# Altium schematic symbol library Micron Memory DDR2 SDRAM.SchLib: 62 symbols (part 4 of 16)
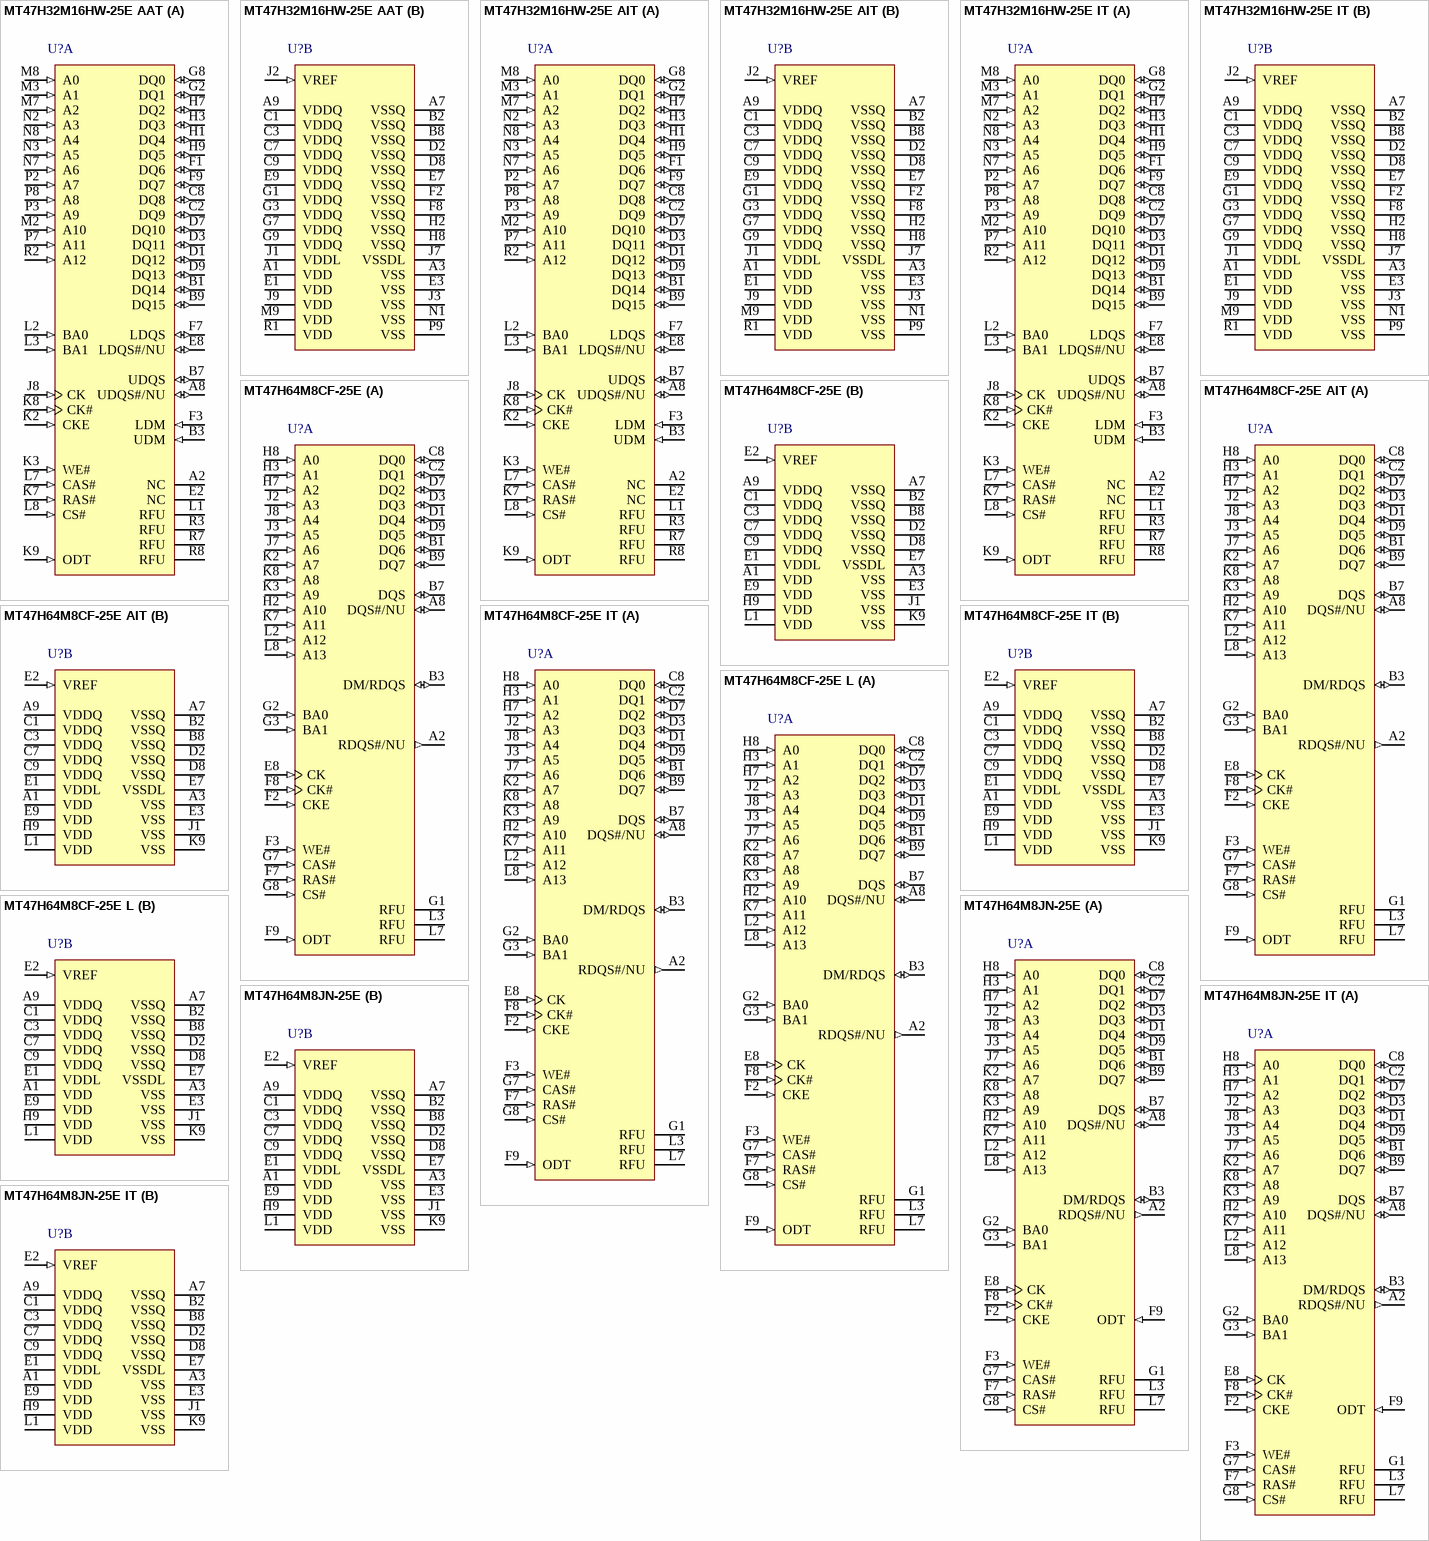
[diagram p10: symbols MT47H32M16HW-25E AAT to MT47H64M8JN-25E IT]

## MT47H64M8CF-25E AIT
designator U?
512Mb DDR2-800 SDRAM, 64Mb x 8, 2.5ns, 1.8V, -40 to 105 degC, 60-Ball FBGA, Pb-Free; Manufacturer: Micron; PartNumber: MT47H64M8CF-25E AIT; CL: CL = 5; Clock Rate: 400 MHz; Op. Temp.: -40C to +105C; DatasheetVersion: Rev.T; PackageVersion: Rev.D; PackageReference: MICT-CF-60; PackageDescription: 60-Ball Fine-Pitch Ball Grid Array, 10 x 8 mm, Pitch 0.8 mm; Cycle Time: 2.5ns; Data Rate: DDR2-800; Density: 512Mb; Depth: 64Mb; Package: FBGA; Pin Count: 60-ball; RoHS: Yes; Voltage: 1.8V; Width: x8; Mounting Technology: Surface Mount; ComponentLink1Description: Manufacturer URL; ComponentLink1URL: http://www.micron.com/; ComponentLink2Description: Datasheet; ComponentLink2URL: http://www.micron.com/~/media/Documents/Products/Data%20Sheet/DRAM/512MbDDR2.pdf; ComponentLink3Description: Package Specification; ComponentLink3URL: http://www.micron.com/~/media/Documents/Products/Data%20Sheet/DRAM/1Gb_1_55V_DDR2.pdf
footprint MICT-CF-60 (BGA, 60-Balls, Body 10x8mm, Pitch 0.8mm)
part A pins: A2 RDQS#/NU (out) "Redundant data strobe: For 64 Meg x 8 only. RDQS is enabled/disabled via the load mode command to the extended mode register (EMR). When RDQS is enabled, RDQS is output with read data only and is ignored during write data. (See Datasheet)", A8 DQS#/NU (io) "Data strobe: Output with read data, input with write data for source synchronous operation. Edge-aligned with read data, center-aligned with write data. DQS# is only used when differential data strobe mode is enabled via the (See Datasheet)", B1 DQ6 (io) "Data input/output:Bidirectional data bus for 64 Meg x 8.", B3 DM/RDQS (io) "Redundant data strobe: For 64 Meg x 8 only. RDQS is enabled/disabled via the load mode command to the extended mode register (EMR). When RDQS is enabled, RDQS is output with read data only and is ignored during write data. (See Datasheet)", B7 DQS (io) "Data strobe: Output with read data, input with write data for source synchronous operation. Edge-aligned with read data, center-aligned with write data. DQS# is only used when differential data strobe mode is enabled via the (See Datasheet)", B9 DQ7 (io) "Data input/output:Bidirectional data bus for 64 Meg x 8.", C2 DQ1 (io) "Data input/output:Bidirectional data bus for 64 Meg x 8.", C8 DQ0 (io) "Data input/output:Bidirectional data bus for 64 Meg x 8.", D1 DQ4 (io) "Data input/output:Bidirectional data bus for 64 Meg x 8.", D3 DQ3 (io) "Data input/output:Bidirectional data bus for 64 Meg x 8.", D7 DQ2 (io) "Data input/output:Bidirectional data bus for 64 Meg x 8.", D9 DQ5 (io) "Data input/output:Bidirectional data bus for 64 Meg x 8.", E8 CK (in) "Clock: CK and CK# are differential clock inputs. All address and control input signals are sampled on the crossing of the positive edge of CK and negative edge of CK#. Output data (DQ and DQS/DQS#) is referenced to the (See Datasheet)", F2 CKE (in) "Clock enable: CKE (registered HIGH) activates and CKE (registered LOW) deactivates clocking circuitry on the DDR2 SDRAM. The specific circuitry that is enabled/disabled is dependent on the DDR2 SDRAM configuration and (See Datasheet)", F3 WE# (in) "Command input: RAS#, CAS#, and WE# (along with CS#) define the command being entered.", F7 RAS# (in) "Command input: RAS#, CAS#, and WE# (along with CS#) define the command being entered.", F8 CK# (in) "Clock: CK and CK# are differential clock inputs. All address and control input signals are sampled on the crossing of the positive edge of CK and negative edge of CK#. Output data (DQ and DQS/DQS#) is referenced to the (See Datasheet)", F9 ODT (in) "On-die termination: ODT (registered HIGH) enables termination resistance internal to the DDR2 SDRAM. When enabled, ODT is only applied to each of the following balls: DQ[7:]DQS, DQS#, RDQS, RDQS#, and DM for the x8; DQ[3:0]. (See Datasheet)", G1 RFU "Reserved for future use", G2 BA0 (in) "Bank address input: BA[1:0] define to which bank an ACTIVATE, READ, WRITE, or PRECHARGE command is being applied. BA[1:0] define which mode register including MR, EMR, EMR(2), and EMR(3) is loaded during the LOAD MODE (See Datasheet)", G3 BA1 (in) "Bank address input: BA[1:0] define to which bank an ACTIVATE, READ, WRITE, or PRECHARGE command is being applied. BA[1:0] define which mode register including MR, EMR, EMR(2), and EMR(3) is loaded during the LOAD MODE (See Datasheet)", G7 CAS# (in) "Command input: RAS#, CAS#, and WE# (along with CS#) define the command being entered.", G8 CS# (in) "Chip select: CS# enables (registered LOW) and disables (registered HIGH) the command decoder. All commands are masked when CS# is registered high. CS# provides for external bank selection on systems with multiple ranks. CS# (See Datasheet)", H2 A10 (in) "Address input: Provide the row address for ACTIVATE commands, and the column address and auto precharge bit (A10) for READ/WRITE commands, to select one location out of the memory array in the respective bank. A10 sampled (See Datasheet)", H3 A1 (in) "Address input: Provide the row address for ACTIVATE commands, and the column address and auto precharge bit (A10) for READ/WRITE commands, to select one location out of the memory array in the respective bank. A10 sampled (See Datasheet)", H7 A2 (in) "Address input: Provide the row address for ACTIVATE commands, and the column address and auto precharge bit (A10) for READ/WRITE commands, to select one location out of the memory array in the respective bank. A10 sampled (See Datasheet)", H8 A0 (in) "Address input: Provide the row address for ACTIVATE commands, and the column address and auto precharge bit (A10) for READ/WRITE commands, to select one location out of the memory array in the respective bank. A10 sampled (See Datasheet)", J2 A3 (in) "Address input: Provide the row address for ACTIVATE commands, and the column address and auto precharge bit (A10) for READ/WRITE commands, to select one location out of the memory array in the respective bank. A10 sampled (See Datasheet)", J3 A5 (in) "Address input: Provide the row address for ACTIVATE commands, and the column address and auto precharge bit (A10) for READ/WRITE commands, to select one location out of the memory array in the respective bank. A10 sampled (See Datasheet)", J7 A6 (in) "Address input: Provide the row address for ACTIVATE commands, and the column address and auto precharge bit (A10) for READ/WRITE commands, to select one location out of the memory array in the respective bank. A10 sampled (See Datasheet)", J8 A4 (in) "Address input: Provide the row address for ACTIVATE commands, and the column address and auto precharge bit (A10) for READ/WRITE commands, to select one location out of the memory array in the respective bank. A10 sampled (See Datasheet)", K2 A7 (in) "Address input: Provide the row address for ACTIVATE commands, and the column address and auto precharge bit (A10) for READ/WRITE commands, to select one location out of the memory array in the respective bank. A10 sampled (See Datasheet)", K3 A9 (in) "Address input: Provide the row address for ACTIVATE commands, and the column address and auto precharge bit (A10) for READ/WRITE commands, to select one location out of the memory array in the respective bank. A10 sampled (See Datasheet)", K7 A11 (in) "Address input: Provide the row address for ACTIVATE commands, and the column address and auto precharge bit (A10) for READ/WRITE commands, to select one location out of the memory array in the respective bank. A10 sampled (See Datasheet)", K8 A8 (in) "Address input: Provide the row address for ACTIVATE commands, and the column address and auto precharge bit (A10) for READ/WRITE commands, to select one location out of the memory array in the respective bank. A10 sampled (See Datasheet)", L2 A12 (in) "Address input: Provide the row address for ACTIVATE commands, and the column address and auto precharge bit (A10) for READ/WRITE commands, to select one location out of the memory array in the respective bank. A10 sampled (See Datasheet)", L3 RFU "Reserved for future use", L7 RFU "Reserved for future use", L8 A13 (in) "Address input: Provide the row address for ACTIVATE commands, and the column address and auto precharge bit (A10) for READ/WRITE commands, to select one location out of the memory array in the respective bank. A10 sampled (See Datasheet)"
part B pins: A1 VDD (power) "Power supply: 1.8V +/-0.1V.", A3 VSS (power) "Ground.", A7 VSSQ (power) "DQ ground: Isolated on the device for improved noise immunity.", A9 VDDQ (power) "DQ power supply: 1.8V +/-0.1V. Isolated on the device for improved noise immunity.", B2 VSSQ (power) "DQ ground: Isolated on the device for improved noise immunity.", B8 VSSQ (power) "DQ ground: Isolated on the device for improved noise immunity.", C1 VDDQ (power) "DQ power supply: 1.8V +/-0.1V. Isolated on the device for improved noise immunity.", C3 VDDQ (power) "DQ power supply: 1.8V +/-0.1V. Isolated on the device for improved noise immunity.", C7 VDDQ (power) "DQ power supply: 1.8V +/-0.1V. Isolated on the device for improved noise immunity.", C9 VDDQ (power) "DQ power supply: 1.8V +/-0.1V. Isolated on the device for improved noise immunity.", D2 VSSQ (power) "DQ ground: Isolated on the device for improved noise immunity.", D8 VSSQ (power) "DQ ground: Isolated on the device for improved noise immunity.", E1 VDDL (power) "DLL power supply: 1.8V +/-0.1V.", E2 VREF (in) "SSTL_18 reference voltage (VDDQ/2).", E3 VSS (power) "Ground.", E7 VSSDL (power) "DLL ground: Isolated on the device from VSS and VSSQ.", E9 VDD (power) "Power supply: 1.8V +/-0.1V.", H9 VDD (power) "Power supply: 1.8V +/-0.1V.", J1 VSS (power) "Ground.", K9 VSS (power) "Ground.", L1 VDD (power) "Power supply: 1.8V +/-0.1V."

## MT47H64M8CF-25E IT
designator U?
512Mb DDR2-800 SDRAM, 64Mb x 8, 2.5ns, 1.8V, -40 to 95 degC, 60-Ball FBGA, Pb-Free; Manufacturer: Micron; PartNumber: MT47H64M8CF-25E IT; CL: CL = 5; Clock Rate: 400 MHz; Op. Temp.: -40C to +95C; DatasheetVersion: Rev.T; PackageVersion: Rev.D; PackageReference: MICT-CF-60; PackageDescription: 60-Ball Fine-Pitch Ball Grid Array, 10 x 8 mm, Pitch 0.8 mm; Cycle Time: 2.5ns; Data Rate: DDR2-800; Density: 512Mb; Depth: 64Mb; Package: FBGA; Pin Count: 60-ball; RoHS: Yes; Voltage: 1.8V; Width: x8; Mounting Technology: Surface Mount; ComponentLink1Description: Manufacturer URL; ComponentLink1URL: http://www.micron.com/; ComponentLink2Description: Datasheet; ComponentLink2URL: http://www.micron.com/~/media/Documents/Products/Data%20Sheet/DRAM/512MbDDR2.pdf; ComponentLink3Description: Package Specification; ComponentLink3URL: http://www.micron.com/~/media/Documents/Products/Data%20Sheet/DRAM/1Gb_1_55V_DDR2.pdf
footprint MICT-CF-60 (BGA, 60-Balls, Body 10x8mm, Pitch 0.8mm)
part A pins: A2 RDQS#/NU (out) "Redundant data strobe: For 64 Meg x 8 only. RDQS is enabled/disabled via the load mode command to the extended mode register (EMR). When RDQS is enabled, RDQS is output with read data only and is ignored during write data. (See Datasheet)", A8 DQS#/NU (io) "Data strobe: Output with read data, input with write data for source synchronous operation. Edge-aligned with read data, center-aligned with write data. DQS# is only used when differential data strobe mode is enabled via the (See Datasheet)", B1 DQ6 (io) "Data input/output:Bidirectional data bus for 64 Meg x 8.", B3 DM/RDQS (io) "Redundant data strobe: For 64 Meg x 8 only. RDQS is enabled/disabled via the load mode command to the extended mode register (EMR). When RDQS is enabled, RDQS is output with read data only and is ignored during write data. (See Datasheet)", B7 DQS (io) "Data strobe: Output with read data, input with write data for source synchronous operation. Edge-aligned with read data, center-aligned with write data. DQS# is only used when differential data strobe mode is enabled via the (See Datasheet)", B9 DQ7 (io) "Data input/output:Bidirectional data bus for 64 Meg x 8.", C2 DQ1 (io) "Data input/output:Bidirectional data bus for 64 Meg x 8.", C8 DQ0 (io) "Data input/output:Bidirectional data bus for 64 Meg x 8.", D1 DQ4 (io) "Data input/output:Bidirectional data bus for 64 Meg x 8.", D3 DQ3 (io) "Data input/output:Bidirectional data bus for 64 Meg x 8.", D7 DQ2 (io) "Data input/output:Bidirectional data bus for 64 Meg x 8.", D9 DQ5 (io) "Data input/output:Bidirectional data bus for 64 Meg x 8.", E8 CK (in) "Clock: CK and CK# are differential clock inputs. All address and control input signals are sampled on the crossing of the positive edge of CK and negative edge of CK#. Output data (DQ and DQS/DQS#) is referenced to the (See Datasheet)", F2 CKE (in) "Clock enable: CKE (registered HIGH) activates and CKE (registered LOW) deactivates clocking circuitry on the DDR2 SDRAM. The specific circuitry that is enabled/disabled is dependent on the DDR2 SDRAM configuration and (See Datasheet)", F3 WE# (in) "Command input: RAS#, CAS#, and WE# (along with CS#) define the command being entered.", F7 RAS# (in) "Command input: RAS#, CAS#, and WE# (along with CS#) define the command being entered.", F8 CK# (in) "Clock: CK and CK# are differential clock inputs. All address and control input signals are sampled on the crossing of the positive edge of CK and negative edge of CK#. Output data (DQ and DQS/DQS#) is referenced to the (See Datasheet)", F9 ODT (in) "On-die termination: ODT (registered HIGH) enables termination resistance internal to the DDR2 SDRAM. When enabled, ODT is only applied to each of the following balls: DQ[7:]DQS, DQS#, RDQS, RDQS#, and DM for the x8; DQ[3:0]. (See Datasheet)", G1 RFU "Reserved for future use", G2 BA0 (in) "Bank address input: BA[1:0] define to which bank an ACTIVATE, READ, WRITE, or PRECHARGE command is being applied. BA[1:0] define which mode register including MR, EMR, EMR(2), and EMR(3) is loaded during the LOAD MODE (See Datasheet)", G3 BA1 (in) "Bank address input: BA[1:0] define to which bank an ACTIVATE, READ, WRITE, or PRECHARGE command is being applied. BA[1:0] define which mode register including MR, EMR, EMR(2), and EMR(3) is loaded during the LOAD MODE (See Datasheet)", G7 CAS# (in) "Command input: RAS#, CAS#, and WE# (along with CS#) define the command being entered.", G8 CS# (in) "Chip select: CS# enables (registered LOW) and disables (registered HIGH) the command decoder. All commands are masked when CS# is registered high. CS# provides for external bank selection on systems with multiple ranks. CS# (See Datasheet)", H2 A10 (in) "Address input: Provide the row address for ACTIVATE commands, and the column address and auto precharge bit (A10) for READ/WRITE commands, to select one location out of the memory array in the respective bank. A10 sampled (See Datasheet)", H3 A1 (in) "Address input: Provide the row address for ACTIVATE commands, and the column address and auto precharge bit (A10) for READ/WRITE commands, to select one location out of the memory array in the respective bank. A10 sampled (See Datasheet)", H7 A2 (in) "Address input: Provide the row address for ACTIVATE commands, and the column address and auto precharge bit (A10) for READ/WRITE commands, to select one location out of the memory array in the respective bank. A10 sampled (See Datasheet)", H8 A0 (in) "Address input: Provide the row address for ACTIVATE commands, and the column address and auto precharge bit (A10) for READ/WRITE commands, to select one location out of the memory array in the respective bank. A10 sampled (See Datasheet)", J2 A3 (in) "Address input: Provide the row address for ACTIVATE commands, and the column address and auto precharge bit (A10) for READ/WRITE commands, to select one location out of the memory array in the respective bank. A10 sampled (See Datasheet)", J3 A5 (in) "Address input: Provide the row address for ACTIVATE commands, and the column address and auto precharge bit (A10) for READ/WRITE commands, to select one location out of the memory array in the respective bank. A10 sampled (See Datasheet)", J7 A6 (in) "Address input: Provide the row address for ACTIVATE commands, and the column address and auto precharge bit (A10) for READ/WRITE commands, to select one location out of the memory array in the respective bank. A10 sampled (See Datasheet)", J8 A4 (in) "Address input: Provide the row address for ACTIVATE commands, and the column address and auto precharge bit (A10) for READ/WRITE commands, to select one location out of the memory array in the respective bank. A10 sampled (See Datasheet)", K2 A7 (in) "Address input: Provide the row address for ACTIVATE commands, and the column address and auto precharge bit (A10) for READ/WRITE commands, to select one location out of the memory array in the respective bank. A10 sampled (See Datasheet)", K3 A9 (in) "Address input: Provide the row address for ACTIVATE commands, and the column address and auto precharge bit (A10) for READ/WRITE commands, to select one location out of the memory array in the respective bank. A10 sampled (See Datasheet)", K7 A11 (in) "Address input: Provide the row address for ACTIVATE commands, and the column address and auto precharge bit (A10) for READ/WRITE commands, to select one location out of the memory array in the respective bank. A10 sampled (See Datasheet)", K8 A8 (in) "Address input: Provide the row address for ACTIVATE commands, and the column address and auto precharge bit (A10) for READ/WRITE commands, to select one location out of the memory array in the respective bank. A10 sampled (See Datasheet)", L2 A12 (in) "Address input: Provide the row address for ACTIVATE commands, and the column address and auto precharge bit (A10) for READ/WRITE commands, to select one location out of the memory array in the respective bank. A10 sampled (See Datasheet)", L3 RFU "Reserved for future use", L7 RFU "Reserved for future use", L8 A13 (in) "Address input: Provide the row address for ACTIVATE commands, and the column address and auto precharge bit (A10) for READ/WRITE commands, to select one location out of the memory array in the respective bank. A10 sampled (See Datasheet)"
part B pins: A1 VDD (power) "Power supply: 1.8V +/-0.1V.", A3 VSS (power) "Ground.", A7 VSSQ (power) "DQ ground: Isolated on the device for improved noise immunity.", A9 VDDQ (power) "DQ power supply: 1.8V +/-0.1V. Isolated on the device for improved noise immunity.", B2 VSSQ (power) "DQ ground: Isolated on the device for improved noise immunity.", B8 VSSQ (power) "DQ ground: Isolated on the device for improved noise immunity.", C1 VDDQ (power) "DQ power supply: 1.8V +/-0.1V. Isolated on the device for improved noise immunity.", C3 VDDQ (power) "DQ power supply: 1.8V +/-0.1V. Isolated on the device for improved noise immunity.", C7 VDDQ (power) "DQ power supply: 1.8V +/-0.1V. Isolated on the device for improved noise immunity.", C9 VDDQ (power) "DQ power supply: 1.8V +/-0.1V. Isolated on the device for improved noise immunity.", D2 VSSQ (power) "DQ ground: Isolated on the device for improved noise immunity.", D8 VSSQ (power) "DQ ground: Isolated on the device for improved noise immunity.", E1 VDDL (power) "DLL power supply: 1.8V +/-0.1V.", E2 VREF (in) "SSTL_18 reference voltage (VDDQ/2).", E3 VSS (power) "Ground.", E7 VSSDL (power) "DLL ground: Isolated on the device from VSS and VSSQ.", E9 VDD (power) "Power supply: 1.8V +/-0.1V.", H9 VDD (power) "Power supply: 1.8V +/-0.1V.", J1 VSS (power) "Ground.", K9 VSS (power) "Ground.", L1 VDD (power) "Power supply: 1.8V +/-0.1V."

## MT47H64M8CF-25E L
designator U?
512Mb DDR2-800 SDRAM, 64Mb x 8, 2.5ns, 1.8V, 0 to 85 degC, 60-Ball FBGA, Pb-Free; Manufacturer: Micron; PartNumber: MT47H64M8CF-25E L; CL: CL = 5; Clock Rate: 400 MHz; Op. Temp.: 0C to +85C; DatasheetVersion: Rev.T; PackageVersion: Rev.D; PackageReference: MICT-CF-60; PackageDescription: 60-Ball Fine-Pitch Ball Grid Array, 10 x 8 mm, Pitch 0.8 mm; Cycle Time: 2.5ns; Data Rate: DDR2-800; Density: 512Mb; Depth: 64Mb; Package: FBGA; Pin Count: 60-ball; RoHS: Yes; Voltage: 1.8V; Width: x8; Mounting Technology: Surface Mount; ComponentLink1Description: Manufacturer URL; ComponentLink1URL: http://www.micron.com/; ComponentLink2Description: Datasheet; ComponentLink2URL: http://www.micron.com/~/media/Documents/Products/Data%20Sheet/DRAM/512MbDDR2.pdf; ComponentLink3Description: Package Specification; ComponentLink3URL: http://www.micron.com/~/media/Documents/Products/Data%20Sheet/DRAM/1Gb_1_55V_DDR2.pdf
footprint MICT-CF-60 (BGA, 60-Balls, Body 10x8mm, Pitch 0.8mm)
part A pins: A2 RDQS#/NU (out) "Redundant data strobe: For 64 Meg x 8 only. RDQS is enabled/disabled via the load mode command to the extended mode register (EMR). When RDQS is enabled, RDQS is output with read data only and is ignored during write data. (See Datasheet)", A8 DQS#/NU (io) "Data strobe: Output with read data, input with write data for source synchronous operation. Edge-aligned with read data, center-aligned with write data. DQS# is only used when differential data strobe mode is enabled via the (See Datasheet)", B1 DQ6 (io) "Data input/output:Bidirectional data bus for 64 Meg x 8.", B3 DM/RDQS (io) "Redundant data strobe: For 64 Meg x 8 only. RDQS is enabled/disabled via the load mode command to the extended mode register (EMR). When RDQS is enabled, RDQS is output with read data only and is ignored during write data. (See Datasheet)", B7 DQS (io) "Data strobe: Output with read data, input with write data for source synchronous operation. Edge-aligned with read data, center-aligned with write data. DQS# is only used when differential data strobe mode is enabled via the (See Datasheet)", B9 DQ7 (io) "Data input/output:Bidirectional data bus for 64 Meg x 8.", C2 DQ1 (io) "Data input/output:Bidirectional data bus for 64 Meg x 8.", C8 DQ0 (io) "Data input/output:Bidirectional data bus for 64 Meg x 8.", D1 DQ4 (io) "Data input/output:Bidirectional data bus for 64 Meg x 8.", D3 DQ3 (io) "Data input/output:Bidirectional data bus for 64 Meg x 8.", D7 DQ2 (io) "Data input/output:Bidirectional data bus for 64 Meg x 8.", D9 DQ5 (io) "Data input/output:Bidirectional data bus for 64 Meg x 8.", E8 CK (in) "Clock: CK and CK# are differential clock inputs. All address and control input signals are sampled on the crossing of the positive edge of CK and negative edge of CK#. Output data (DQ and DQS/DQS#) is referenced to the (See Datasheet)", F2 CKE (in) "Clock enable: CKE (registered HIGH) activates and CKE (registered LOW) deactivates clocking circuitry on the DDR2 SDRAM. The specific circuitry that is enabled/disabled is dependent on the DDR2 SDRAM configuration and (See Datasheet)", F3 WE# (in) "Command input: RAS#, CAS#, and WE# (along with CS#) define the command being entered.", F7 RAS# (in) "Command input: RAS#, CAS#, and WE# (along with CS#) define the command being entered.", F8 CK# (in) "Clock: CK and CK# are differential clock inputs. All address and control input signals are sampled on the crossing of the positive edge of CK and negative edge of CK#. Output data (DQ and DQS/DQS#) is referenced to the (See Datasheet)", F9 ODT (in) "On-die termination: ODT (registered HIGH) enables termination resistance internal to the DDR2 SDRAM. When enabled, ODT is only applied to each of the following balls: DQ[7:]DQS, DQS#, RDQS, RDQS#, and DM for the x8; DQ[3:0]. (See Datasheet)", G1 RFU "Reserved for future use", G2 BA0 (in) "Bank address input: BA[1:0] define to which bank an ACTIVATE, READ, WRITE, or PRECHARGE command is being applied. BA[1:0] define which mode register including MR, EMR, EMR(2), and EMR(3) is loaded during the LOAD MODE (See Datasheet)", G3 BA1 (in) "Bank address input: BA[1:0] define to which bank an ACTIVATE, READ, WRITE, or PRECHARGE command is being applied. BA[1:0] define which mode register including MR, EMR, EMR(2), and EMR(3) is loaded during the LOAD MODE (See Datasheet)", G7 CAS# (in) "Command input: RAS#, CAS#, and WE# (along with CS#) define the command being entered.", G8 CS# (in) "Chip select: CS# enables (registered LOW) and disables (registered HIGH) the command decoder. All commands are masked when CS# is registered high. CS# provides for external bank selection on systems with multiple ranks. CS# (See Datasheet)", H2 A10 (in) "Address input: Provide the row address for ACTIVATE commands, and the column address and auto precharge bit (A10) for READ/WRITE commands, to select one location out of the memory array in the respective bank. A10 sampled (See Datasheet)", H3 A1 (in) "Address input: Provide the row address for ACTIVATE commands, and the column address and auto precharge bit (A10) for READ/WRITE commands, to select one location out of the memory array in the respective bank. A10 sampled (See Datasheet)", H7 A2 (in) "Address input: Provide the row address for ACTIVATE commands, and the column address and auto precharge bit (A10) for READ/WRITE commands, to select one location out of the memory array in the respective bank. A10 sampled (See Datasheet)", H8 A0 (in) "Address input: Provide the row address for ACTIVATE commands, and the column address and auto precharge bit (A10) for READ/WRITE commands, to select one location out of the memory array in the respective bank. A10 sampled (See Datasheet)", J2 A3 (in) "Address input: Provide the row address for ACTIVATE commands, and the column address and auto precharge bit (A10) for READ/WRITE commands, to select one location out of the memory array in the respective bank. A10 sampled (See Datasheet)", J3 A5 (in) "Address input: Provide the row address for ACTIVATE commands, and the column address and auto precharge bit (A10) for READ/WRITE commands, to select one location out of the memory array in the respective bank. A10 sampled (See Datasheet)", J7 A6 (in) "Address input: Provide the row address for ACTIVATE commands, and the column address and auto precharge bit (A10) for READ/WRITE commands, to select one location out of the memory array in the respective bank. A10 sampled (See Datasheet)", J8 A4 (in) "Address input: Provide the row address for ACTIVATE commands, and the column address and auto precharge bit (A10) for READ/WRITE commands, to select one location out of the memory array in the respective bank. A10 sampled (See Datasheet)", K2 A7 (in) "Address input: Provide the row address for ACTIVATE commands, and the column address and auto precharge bit (A10) for READ/WRITE commands, to select one location out of the memory array in the respective bank. A10 sampled (See Datasheet)", K3 A9 (in) "Address input: Provide the row address for ACTIVATE commands, and the column address and auto precharge bit (A10) for READ/WRITE commands, to select one location out of the memory array in the respective bank. A10 sampled (See Datasheet)", K7 A11 (in) "Address input: Provide the row address for ACTIVATE commands, and the column address and auto precharge bit (A10) for READ/WRITE commands, to select one location out of the memory array in the respective bank. A10 sampled (See Datasheet)", K8 A8 (in) "Address input: Provide the row address for ACTIVATE commands, and the column address and auto precharge bit (A10) for READ/WRITE commands, to select one location out of the memory array in the respective bank. A10 sampled (See Datasheet)", L2 A12 (in) "Address input: Provide the row address for ACTIVATE commands, and the column address and auto precharge bit (A10) for READ/WRITE commands, to select one location out of the memory array in the respective bank. A10 sampled (See Datasheet)", L3 RFU "Reserved for future use", L7 RFU "Reserved for future use", L8 A13 (in) "Address input: Provide the row address for ACTIVATE commands, and the column address and auto precharge bit (A10) for READ/WRITE commands, to select one location out of the memory array in the respective bank. A10 sampled (See Datasheet)"
part B pins: A1 VDD (power) "Power supply: 1.8V +/-0.1V.", A3 VSS (power) "Ground.", A7 VSSQ (power) "DQ ground: Isolated on the device for improved noise immunity.", A9 VDDQ (power) "DQ power supply: 1.8V +/-0.1V. Isolated on the device for improved noise immunity.", B2 VSSQ (power) "DQ ground: Isolated on the device for improved noise immunity.", B8 VSSQ (power) "DQ ground: Isolated on the device for improved noise immunity.", C1 VDDQ (power) "DQ power supply: 1.8V +/-0.1V. Isolated on the device for improved noise immunity.", C3 VDDQ (power) "DQ power supply: 1.8V +/-0.1V. Isolated on the device for improved noise immunity.", C7 VDDQ (power) "DQ power supply: 1.8V +/-0.1V. Isolated on the device for improved noise immunity.", C9 VDDQ (power) "DQ power supply: 1.8V +/-0.1V. Isolated on the device for improved noise immunity.", D2 VSSQ (power) "DQ ground: Isolated on the device for improved noise immunity.", D8 VSSQ (power) "DQ ground: Isolated on the device for improved noise immunity.", E1 VDDL (power) "DLL power supply: 1.8V +/-0.1V.", E2 VREF (in) "SSTL_18 reference voltage (VDDQ/2).", E3 VSS (power) "Ground.", E7 VSSDL (power) "DLL ground: Isolated on the device from VSS and VSSQ.", E9 VDD (power) "Power supply: 1.8V +/-0.1V.", H9 VDD (power) "Power supply: 1.8V +/-0.1V.", J1 VSS (power) "Ground.", K9 VSS (power) "Ground.", L1 VDD (power) "Power supply: 1.8V +/-0.1V."

## MT47H64M8JN-25E
designator U?
512Mb DDR2-800 SDRAM, 64Mb x 8, 2.5ns, 1.8V, 0 to 85 degC, 60-Ball FBGA; Manufacturer: Micron; PartNumber: MT47H64M8JN-25E; CL: CL = 5; Clock Rate: 400 MHz; Op. Temp.: 0C to +85C; DatasheetVersion: Rev.T; PackageVersion: Rev.F, G; PackageReference: MICT-JN-60; PackageDescription: 60-Ball Fine-Pitch Ball Grid Array, 10 x 8 mm, Pitch 0.8 mm; Cycle Time: 2.5ns; Data Rate: DDR2-800; Density: 512Mb; Depth: 64Mb; Package: FBGA; Pin Count: 60-ball; RoHS: 5/6; Voltage: 1.8V; Width: x8; Mounting Technology: Surface Mount; ComponentLink1Description: Manufacturer URL; ComponentLink1URL: http://www.micron.com/; ComponentLink2Description: Datasheet; ComponentLink2URL: http://www.micron.com/~/media/Documents/Products/Data%20Sheet/DRAM/512MbDDR2.pdf; ComponentLink3Description: Package Specification; ComponentLink3URL: http://www.micron.com/~/media/Documents/Products/Data%20Sheet/DRAM/512MbDDR2.pdf
footprint MICT-JN-60 (BGA, 60-Balls, Body 10x8mm, Pitch 0.8mm)
part A pins: A2 RDQS#/NU (out) "Redundant data strobe: For 64 Meg x 8 only. RDQS is enabled/disabled via the load mode command to the extended mode register (EMR). When RDQS is enabled, RDQS is output with read data only and is ignored during write data. (See Datasheet)", A8 DQS#/NU (io) "Data strobe: Output with read data, input with write data for source synchronous operation. Edge-aligned with read data, center-aligned with write data. DQS# is only used when differential data strobe mode is enabled via the (See Datasheet)", B1 DQ6 (io) "Data input/output: Bidirectional data bus for 32 Meg x 16. Bidirectional data bus for 128 Meg x 4. Bidirectional data bus for 64 Meg x 8.", B3 DM/RDQS (io) "Input data mask: DM is an input mask signal for write data. Input data is masked when DM is sampled HIGH along with that input data during a WRITE access. DM is sampled on both edges of DQS. Although DM balls are input-only, (See Datasheet)", B7 DQS (io) "Data strobe: Output with read data, input with write data for source synchronous operation. Edge-aligned with read data, center-aligned with write data. DQS# is only used when differential data strobe mode is enabled via the (See Datasheet)", B9 DQ7 (io) "Data input/output: Bidirectional data bus for 32 Meg x 16. Bidirectional data bus for 128 Meg x 4. Bidirectional data bus for 64 Meg x 8.", C2 DQ1 (io) "Data input/output: Bidirectional data bus for 32 Meg x 16. Bidirectional data bus for 128 Meg x 4. Bidirectional data bus for 64 Meg x 8.", C8 DQ0 (io) "Data input/output: Bidirectional data bus for 32 Meg x 16. Bidirectional data bus for 128 Meg x 4. Bidirectional data bus for 64 Meg x 8.", D1 DQ4 (io) "Data input/output: Bidirectional data bus for 32 Meg x 16. Bidirectional data bus for 128 Meg x 4. Bidirectional data bus for 64 Meg x 8.", D3 DQ3 (io) "Data input/output: Bidirectional data bus for 32 Meg x 16. Bidirectional data bus for 128 Meg x 4. Bidirectional data bus for 64 Meg x 8.", D7 DQ2 (io) "Data input/output: Bidirectional data bus for 32 Meg x 16. Bidirectional data bus for 128 Meg x 4. Bidirectional data bus for 64 Meg x 8.", D9 DQ5 (io) "Data input/output: Bidirectional data bus for 32 Meg x 16. Bidirectional data bus for 128 Meg x 4. Bidirectional data bus for 64 Meg x 8.", E8 CK (in) "Clock: CK and CK# are differential clock inputs. All address and control input signals are sampled on the crossing of the positive edge of CK and negative edge of CK#. Output data (DQ and DQS/DQS#) is referenced to the (See Datasheet)", F2 CKE (in) "Clock enable: CKE (registered HIGH) activates and CKE (registered LOW) deactivates clocking circuitry on the DDR2 SDRAM. The specific circuitry that is enabled/disabled is dependent on the DDR2 SDRAM configuration and (See Datasheet)", F3 WE# (in) "Command inputs: RAS#, CAS#, and WE# (along with CS#) define the command being entered.", F7 RAS# (in) "Command inputs: RAS#, CAS#, and WE# (along with CS#) define the command being entered.", F8 CK# (in) "Clock: CK and CK# are differential clock inputs. All address and control input signals are sampled on the crossing of the positive edge of CK and negative edge of CK#. Output data (DQ and DQS/DQS#) is referenced to the (See Datasheet)", F9 ODT (in) "On-die termination: ODT (registered HIGH) enables termination resistance internal to the DDR2 SDRAM. When enabled, ODT is only applied to each of the following balls: DQ[15:0], LDM, UDM, LDQS, LDQS#, UDQS, and UDQS# for the (See Datasheet)", G1 RFU "Reserved for future use: Bank address BA2, row address bits A13 (x16 only), A14, and A15.", G2 BA0 (in) "Bank address inputs: BA[1:0] define to which bank an ACTIVATE, READ, WRITE, or PRECHARGE command is being applied. BA[1:0] define which mode register including MR, EMR, EMR(2), and EMR(3) is loaded during the LOAD MODE (See Datasheet)", G3 BA1 (in) "Bank address inputs: BA[1:0] define to which bank an ACTIVATE, READ, WRITE, or PRECHARGE command is being applied. BA[1:0] define which mode register including MR, EMR, EMR(2), and EMR(3) is loaded during the LOAD MODE (See Datasheet)", G7 CAS# (in) "Command inputs: RAS#, CAS#, and WE# (along with CS#) define the command being entered.", G8 CS# (in) "Chip select: CS# enables (registered LOW) and disables (registered HIGH) the command decoder. All commands are masked when CS# is registered high. CS# provides for external bank selection on systems with multiple ranks. CS# (See Datasheet)", H2 A10 (in) "Address inputs: Provide the row address for ACTIVATE commands, and the column address and auto precharge bit (A10) for READ/WRITE commands, to select one location out of the memory array in the respective bank. A10 sampled (See Datasheet)", H3 A1 (in) "Address inputs: Provide the row address for ACTIVATE commands, and the column address and auto precharge bit (A10) for READ/WRITE commands, to select one location out of the memory array in the respective bank. A10 sampled (See Datasheet)", H7 A2 (in) "Address inputs: Provide the row address for ACTIVATE commands, and the column address and auto precharge bit (A10) for READ/WRITE commands, to select one location out of the memory array in the respective bank. A10 sampled (See Datasheet)", H8 A0 (in) "Address inputs: Provide the row address for ACTIVATE commands, and the column address and auto precharge bit (A10) for READ/WRITE commands, to select one location out of the memory array in the respective bank. A10 sampled (See Datasheet)", J2 A3 (in) "Address inputs: Provide the row address for ACTIVATE commands, and the column address and auto precharge bit (A10) for READ/WRITE commands, to select one location out of the memory array in the respective bank. A10 sampled (See Datasheet)", J3 A5 (in) "Address inputs: Provide the row address for ACTIVATE commands, and the column address and auto precharge bit (A10) for READ/WRITE commands, to select one location out of the memory array in the respective bank. A10 sampled (See Datasheet)", J7 A6 (in) "Address inputs: Provide the row address for ACTIVATE commands, and the column address and auto precharge bit (A10) for READ/WRITE commands, to select one location out of the memory array in the respective bank. A10 sampled (See Datasheet)", J8 A4 (in) "Address inputs: Provide the row address for ACTIVATE commands, and the column address and auto precharge bit (A10) for READ/WRITE commands, to select one location out of the memory array in the respective bank. A10 sampled (See Datasheet)", K2 A7 (in) "Address inputs: Provide the row address for ACTIVATE commands, and the column address and auto precharge bit (A10) for READ/WRITE commands, to select one location out of the memory array in the respective bank. A10 sampled (See Datasheet)", K3 A9 (in) "Address inputs: Provide the row address for ACTIVATE commands, and the column address and auto precharge bit (A10) for READ/WRITE commands, to select one location out of the memory array in the respective bank. A10 sampled (See Datasheet)", K7 A11 (in) "Address inputs: Provide the row address for ACTIVATE commands, and the column address and auto precharge bit (A10) for READ/WRITE commands, to select one location out of the memory array in the respective bank. A10 sampled (See Datasheet)", K8 A8 (in) "Address inputs: Provide the row address for ACTIVATE commands, and the column address and auto precharge bit (A10) for READ/WRITE commands, to select one location out of the memory array in the respective bank. A10 sampled (See Datasheet)", L2 A12 (in) "Address inputs: Provide the row address for ACTIVATE commands, and the column address and auto precharge bit (A10) for READ/WRITE commands, to select one location out of the memory array in the respective bank. A10 sampled (See Datasheet)", L3 RFU "Reserved for future use: Bank address BA2, row address bits A13 (x16 only), A14, and A15.", L7 RFU "Reserved for future use: Bank address BA2, row address bits A13 (x16 only), A14, and A15.", L8 A13 (in) "Address inputs: Provide the row address for ACTIVATE commands, and the column address and auto precharge bit (A10) for READ/WRITE commands, to select one location out of the memory array in the respective bank. A10 sampled (See Datasheet)"
part B pins: A1 VDD (power) "Power supply: 1.8V +/-0.1V.", A3 VSS (power) "Ground.", A7 VSSQ (power) "DQ ground: Isolated on the device for improved noise immunity.", A9 VDDQ (power) "DQ power supply: 1.8V +/-0.1V. Isolated on the device for improved noise immunity.", B2 VSSQ (power) "DQ ground: Isolated on the device for improved noise immunity.", B8 VSSQ (power) "DQ ground: Isolated on the device for improved noise immunity.", C1 VDDQ (power) "DQ power supply: 1.8V +/-0.1V. Isolated on the device for improved noise immunity.", C3 VDDQ (power) "DQ power supply: 1.8V +/-0.1V. Isolated on the device for improved noise immunity.", C7 VDDQ (power) "DQ power supply: 1.8V +/-0.1V. Isolated on the device for improved noise immunity.", C9 VDDQ (power) "DQ power supply: 1.8V +/-0.1V. Isolated on the device for improved noise immunity.", D2 VSSQ (power) "DQ ground: Isolated on the device for improved noise immunity.", D8 VSSQ (power) "DQ ground: Isolated on the device for improved noise immunity.", E1 VDDL (power) "DLL power supply: 1.8V +/-0.1V.", E2 VREF (in) "SSTL_18 reference voltage (VDDQ/2).", E3 VSS (power) "Ground.", E7 VSSDL (power) "DLL ground: Isolated on the device from VSS and VSSQ.", E9 VDD (power) "Power supply: 1.8V +/-0.1V.", H9 VDD (power) "Power supply: 1.8V +/-0.1V.", J1 VSS (power) "Ground.", K9 VSS (power) "Ground.", L1 VDD (power) "Power supply: 1.8V +/-0.1V."